# Altium footprint library MECH_SCREW.PcbLib: 28 footprints (part 1 of 2)
Each footprint in its own frame and in the unit in brackets; x right, y up, seen from the top. Pads: shape width x height; smd on the part's side, far side on the other; paste and mask are expansions set on the pad; w line width, h text height; cw(c..) or ccw(c..) is an arc to the next point about the centre after c.
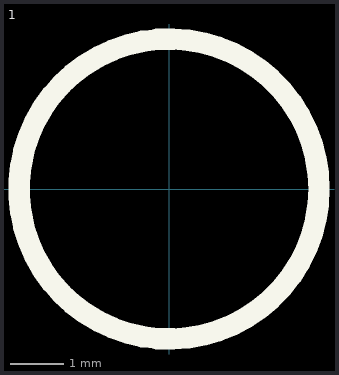
[diagram p0: the footprints below, top view; thin cyan lines are the x and y axes]

## 1 [mm] "SCREW, M2.5, 2.5mm diameter and 5.0mm PanHead"
Top Overlay:
  circle w0.4: c0,0 r2.8

## SCRW_CHSH_PHLIPS_M2P5X5 [mm] "SCREW, M3, 2.5mm diameter and 5.0mm, CheaseHead, Phillips, 5mm length"
3D body "Phillips Pan head M2.5X0.45 L 5mm ISO Metric Screw.STEP": height 2.1, standoff -5, extent -2.5,-2.5 2.5,2.5

## SCRW_CHSH_PHLIPS_M2X4 [mm] "SCREW, M3, 2.0mm diameter and 4.0mm, CheaseHead, Phillips, 4mm length"
3D body "pn11340018.stp": height 1.73, standoff -3.8, extent -2,-2 2,2

## SCRW_CHSH_PHLIPS_M3X5 [mm] "SCREW, M3, 3mm diameter and 6.0mm, CheaseHead, Phillips, 5mm length"
3D body "SCRW_CHSH_PHLIPS_M3X5.stp": height 2.53, standoff -4.8, extent -3,-3 3,3

## SCRW_CHSH_PHLIPS_M4X8 [mm] "SCREW, M3, 4mm diameter and 8.0mm, CheaseHead, Phillips, 8mm length"
3D body "SCRW_CHSH_PHLIPS_M4X8.stp": height 3.18, standoff -7.8, extent -4,-4 4,4

## SCRW_CHSH_PHLIPS_M5X10 [mm] "SCREW, M3, 5mm diameter and 10mm, CheaseHead, Phillips, 10mm length"
3D body "SCRW_CHSH_PHLIPS_M5X10.stp": height 3.88, standoff -9.8, extent -5,-5 5,5

## SCRW_CHSH_PHLIPS_M6X12 [mm] "SCREW, M3, 6mm diameter and 12mm, CheaseHead, Phillips, 12mm length"
3D body "SCRW_CHSH_PHLIPS_M6X8.stp": height 4.63, standoff -7.8, extent -6,-6 6,6

## SCRW_FLTH_PHLIPS_M1P6X3 [mm] "SCREW, M1.6, 1.6mm diameter and 2.5mm FlatHead, Phillips, 3mm length"
3D body "screw_iso7046-1-m1_6x3-4_8-h.stp": height 1, standoff -2, extent -1.5,-1.5 1.5,1.5

## SCRW_FLTH_PHLIPS_M2P5X5 [mm] "SCREW, M2.5, 2.5mm diameter and 5.0mm FlatHead, Phillips, 5mm length"
3D body "t1crfchms_unf_no__3_56_0_125_0_125.stp": height 1.4, standoff -1.78, extent -2.121,-2.121 2.121,2.121

## SCRW_FLTH_PHLIPS_M2X4 [mm] "SCREW, M2, 2.0mm diameter and 4.0mm FlatHead, Phillips, 4mm length"
3D body "t1crfchms_unf_no__2_64_0_125_0_125.stp": height 1.2, standoff -1.97, extent -1.829,-1.829 1.829,1.829

## SCRW_FLTH_PHLIPS_M3P5X5 [mm] "SCREW, M3.5, 3.5mm diameter and 7.0mm FlatHead, Phillips, 5mm length"
3D body "screw_iso7046-1-m3_5x5-4_8-h.stp": height 2.7, standoff -2.3, extent -3.65,-3.65 3.65,3.65

## SCRW_FLTH_PHLIPS_M3X5 [mm] "SCREW, M3, 3mm diameter and 6.0mm FlatHead, Phillips, 5mm length"
3D body "t1crfchms_unf_no__5_44_0_125_0_125.stp": height 1.7, standoff -1.48, extent -2.73,-2.73 2.731,2.731

## SCRW_FLTH_PHLIPS_M4X8 [mm] "SCREW, M4, 4mm diameter and 8.0mm FlatHead, Phillips, 8mm length"
3D body "t1crfchms_unf_no__8_36_0_188_0_188.stp": height 2.2, standoff -2.58, extent -3.619,-3.619 3.62,3.62

## SCRW_FLTH_PHLIPS_M5X10 [mm] "SCREW, M5, 5mm diameter and 10mm FlatHead, Phillips, 10mm length"
3D body "t1crfchms_unf_no__10_32_0_25_0_25.stp": height 3, standoff -3.35, extent -4.229,-4.229 4.229,4.229

## SCRW_FLTH_PHLIPS_M6X12 [mm] "SCREW, M6, 6mm diameter and 12mm FlatHead, Phillips, 12mm length"
3D body "t1crfchms_unf_1_4_28_0_25_0_25.stp": height 4, standoff -2.35, extent -5.613,-5.613 5.613,5.613

## SCRW_PANH_PHLIPS_M1P6X3 [mm] "SCREW, M1.6, 1.6mm diameter and 3.2mm PanHead, Phillips, 3mm length"
3D body "screw_iso7045-m1_6x3-h.stp": height 1.47, standoff -2.8, extent -1.6,-1.6 1.6,1.6